# Altium schematic symbol library spacemonochrome-WR_TBL.SchLib: 1696 symbols (part 14 of 28)
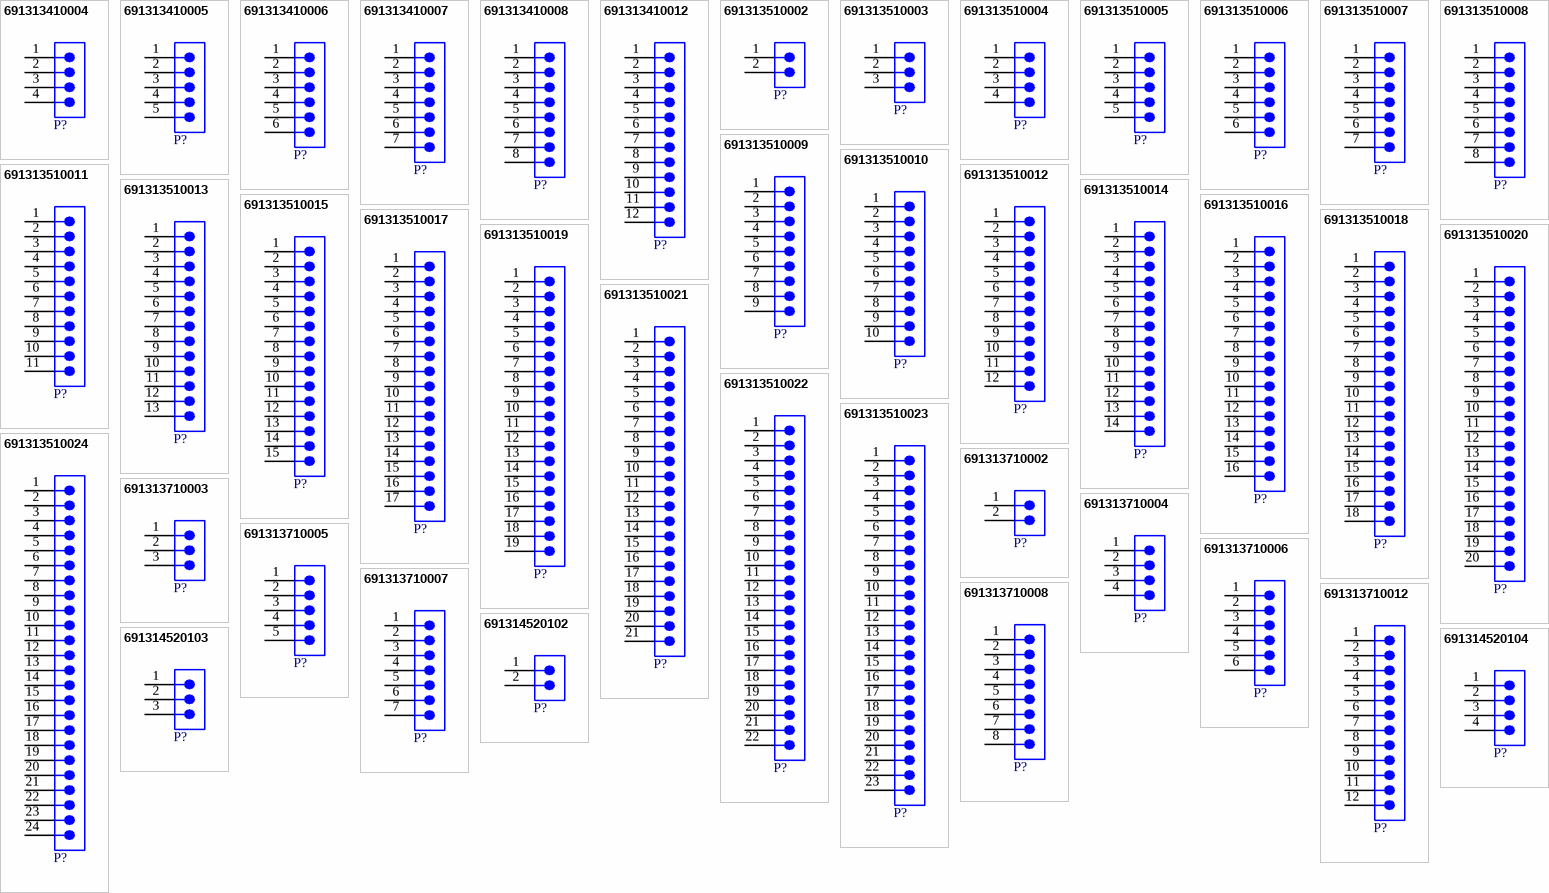
[diagram p55: symbols 691313410004 to 691314520104]

## 691313510008
designator P?  (value not drawn)
WR-TBL Series 313 Close Horizontal PCB Header, THT, pitch 5.08mm, 8p; Manufacturer: Wurth Elektronik; Modularity: No; Rated Current: 20A; Working Voltage: 300V; ComponentLink1Description: Website Link; ComponentLink1URL: https://www.we-online.com/redexpert/article/691313510008?ad; ComponentLink2Description: Datasheet Link; ComponentLink2URL: https://www.we-online.com/redexpert/spec/691313510008?ad; Manufacturer Part Number: 691313510008; Category: Terminal Blocks; Match Code: WR-TBL; Mount: Through Hole; Operating Temperature Max: 105°C; Operating Temperature Min: -40°C; Packaging: Box; Application: Pluggable; Number of Pins: 8; Number of Rows: 1; Orientation: Horizontal; Pitch: 5.08mm
footprint 691313510008
pins: 1, 2, 3, 4, 5, 6, 7, 8

## 691313510009
designator P?  (value not drawn)
WR-TBL Series 313 Close Horizontal PCB Header, THT, pitch 5.08mm, 9p; Manufacturer: Wurth Elektronik; Modularity: No; Rated Current: 20A; Working Voltage: 300V; ComponentLink1Description: Website Link; ComponentLink1URL: https://www.we-online.com/redexpert/article/691313510009?ad; ComponentLink2Description: Datasheet Link; ComponentLink2URL: https://www.we-online.com/redexpert/spec/691313510009?ad; Manufacturer Part Number: 691313510009; Category: Terminal Blocks; Match Code: WR-TBL; Mount: Through Hole; Operating Temperature Max: 105°C; Operating Temperature Min: -40°C; Packaging: Box; Application: Pluggable; Number of Pins: 9; Number of Rows: 1; Orientation: Horizontal; Pitch: 5.08mm
footprint 691313510009
pins: 1, 2, 3, 4, 5, 6, 7, 8, 9

## 691313510010
designator P?  (value not drawn)
WR-TBL Series 313 Close Horizontal PCB Header, THT, pitch 5.08mm, 10p; Manufacturer: Wurth Elektronik; Modularity: No; Rated Current: 20A; Working Voltage: 300V; ComponentLink1Description: Website Link; ComponentLink1URL: https://www.we-online.com/redexpert/article/691313510010?ad; ComponentLink2Description: Datasheet Link; ComponentLink2URL: https://www.we-online.com/redexpert/spec/691313510010?ad; Manufacturer Part Number: 691313510010; Category: Terminal Blocks; Match Code: WR-TBL; Mount: Through Hole; Operating Temperature Max: 105°C; Operating Temperature Min: -40°C; Packaging: Box; Application: Pluggable; Number of Pins: 10; Number of Rows: 1; Orientation: Horizontal; Pitch: 5.08mm
footprint 691313510010
pins: 1, 2, 3, 4, 5, 6, 7, 8, 9, 10

## 691313510011
designator P?  (value not drawn)
WR-TBL Series 313 Close Horizontal PCB Header, THT, pitch 5.08mm, 11p; Manufacturer: Wurth Elektronik; Modularity: No; Rated Current: 20A; Working Voltage: 300V; ComponentLink1Description: Website Link; ComponentLink1URL: https://www.we-online.com/redexpert/article/691313510011?ad; ComponentLink2Description: Datasheet Link; ComponentLink2URL: https://www.we-online.com/redexpert/spec/691313510011?ad; Manufacturer Part Number: 691313510011; Category: Terminal Blocks; Match Code: WR-TBL; Mount: Through Hole; Operating Temperature Max: 105°C; Operating Temperature Min: -40°C; Packaging: Box; Application: Pluggable; Number of Pins: 11; Number of Rows: 1; Orientation: Horizontal; Pitch: 5.08mm
footprint 691313510011
pins: 1, 2, 3, 4, 5, 6, 7, 8, 9, 10, 11

## 691313510012
designator P?  (value not drawn)
WR-TBL Series 313 Close Horizontal PCB Header, THT, pitch 5.08mm, 12p; Manufacturer: Wurth Elektronik; Modularity: No; Rated Current: 20A; Working Voltage: 300V; ComponentLink1Description: Website Link; ComponentLink1URL: https://www.we-online.com/redexpert/article/691313510012?ad; ComponentLink2Description: Datasheet Link; ComponentLink2URL: https://www.we-online.com/redexpert/spec/691313510012?ad; Manufacturer Part Number: 691313510012; Category: Terminal Blocks; Match Code: WR-TBL; Mount: Through Hole; Operating Temperature Max: 105°C; Operating Temperature Min: -40°C; Packaging: Box; Application: Pluggable; Number of Pins: 12; Number of Rows: 1; Orientation: Horizontal; Pitch: 5.08mm
footprint 691313510012
pins: 1, 2, 3, 4, 5, 6, 7, 8, 9, 10, 11, 12

## 691313510013
designator P?  (value not drawn)
WR-TBL Series 313 Close Horizontal PCB Header, THT, pitch 5.08mm, 13p; Manufacturer: Wurth Elektronik; Modularity: No; Rated Current: 20A; Working Voltage: 300V; ComponentLink1Description: Website Link; ComponentLink1URL: https://www.we-online.com/redexpert/article/691313510013?ad; ComponentLink2Description: Datasheet Link; ComponentLink2URL: https://www.we-online.com/redexpert/spec/691313510013?ad; Manufacturer Part Number: 691313510013; Category: Terminal Blocks; Match Code: WR-TBL; Mount: Through Hole; Operating Temperature Max: 105°C; Operating Temperature Min: -40°C; Packaging: Box; Application: Pluggable; Number of Pins: 13; Number of Rows: 1; Orientation: Horizontal; Pitch: 5.08mm
footprint 691313510013
pins: 1, 2, 3, 4, 5, 6, 7, 8, 9, 10, 11, 12, 13

## 691313510014
designator P?  (value not drawn)
WR-TBL Series 313 Close Horizontal PCB Header, THT, pitch 5.08mm, 14p; Manufacturer: Wurth Elektronik; Modularity: No; Rated Current: 20A; Working Voltage: 300V; ComponentLink1Description: Website Link; ComponentLink1URL: https://www.we-online.com/redexpert/article/691313510014?ad; ComponentLink2Description: Datasheet Link; ComponentLink2URL: https://www.we-online.com/redexpert/spec/691313510014?ad; Manufacturer Part Number: 691313510014; Category: Terminal Blocks; Match Code: WR-TBL; Mount: Through Hole; Operating Temperature Max: 105°C; Operating Temperature Min: -40°C; Packaging: Box; Application: Pluggable; Number of Pins: 14; Number of Rows: 1; Orientation: Horizontal; Pitch: 5.08mm
footprint 691313510014
pins: 1, 2, 3, 4, 5, 6, 7, 8, 9, 10, 11, 12, 13, 14

## 691313510015
designator P?  (value not drawn)
WR-TBL Series 313 Close Horizontal PCB Header, THT, pitch 5.08mm, 15p; Manufacturer: Wurth Elektronik; Modularity: No; Rated Current: 20A; Working Voltage: 300V; ComponentLink1Description: Website Link; ComponentLink1URL: https://www.we-online.com/redexpert/article/691313510015?ad; ComponentLink2Description: Datasheet Link; ComponentLink2URL: https://www.we-online.com/redexpert/spec/691313510015?ad; Manufacturer Part Number: 691313510015; Category: Terminal Blocks; Match Code: WR-TBL; Mount: Through Hole; Operating Temperature Max: 105°C; Operating Temperature Min: -40°C; Packaging: Box; Application: Pluggable; Number of Pins: 15; Number of Rows: 1; Orientation: Horizontal; Pitch: 5.08mm
footprint 691313510015
pins: 1, 2, 3, 4, 5, 6, 7, 8, 9, 10, 11, 12, 13, 14, 15

## 691313510016
designator P?  (value not drawn)
WR-TBL Series 313 Close Horizontal PCB Header, THT, pitch 5.08mm, 16p; Manufacturer: Wurth Elektronik; Modularity: No; Rated Current: 20A; Working Voltage: 300V; ComponentLink1Description: Website Link; ComponentLink1URL: https://www.we-online.com/redexpert/article/691313510016?ad; ComponentLink2Description: Datasheet Link; ComponentLink2URL: https://www.we-online.com/redexpert/spec/691313510016?ad; Manufacturer Part Number: 691313510016; Category: Terminal Blocks; Match Code: WR-TBL; Mount: Through Hole; Operating Temperature Max: 105°C; Operating Temperature Min: -40°C; Packaging: Box; Application: Pluggable; Number of Pins: 16; Number of Rows: 1; Orientation: Horizontal; Pitch: 5.08mm
footprint 691313510016
pins: 1, 2, 3, 4, 5, 6, 7, 8, 9, 10, 11, 12, 13, 14, 15, 16

## 691313510017
designator P?  (value not drawn)
WR-TBL Series 313 Close Horizontal PCB Header, THT, pitch 5.08mm, 17p; Manufacturer: Wurth Elektronik; Modularity: No; Rated Current: 20A; Working Voltage: 300V; ComponentLink1Description: Website Link; ComponentLink1URL: https://www.we-online.com/redexpert/article/691313510017?ad; ComponentLink2Description: Datasheet Link; ComponentLink2URL: https://www.we-online.com/redexpert/spec/691313510017?ad; Manufacturer Part Number: 691313510017; Category: Terminal Blocks; Match Code: WR-TBL; Mount: Through Hole; Operating Temperature Max: 105°C; Operating Temperature Min: -40°C; Packaging: Box; Application: Pluggable; Number of Pins: 17; Number of Rows: 1; Orientation: Horizontal; Pitch: 5.08mm
footprint 691313510017
pins: 1, 2, 3, 4, 5, 6, 7, 8, 9, 10, 11, 12, 13, 14, 15, 16, 17

## 691313510018
designator P?  (value not drawn)
WR-TBL Series 313 Close Horizontal PCB Header, THT, pitch 5.08mm, 18p; Manufacturer: Wurth Elektronik; Modularity: No; Rated Current: 20A; Working Voltage: 300V; ComponentLink1Description: Website Link; ComponentLink1URL: https://www.we-online.com/redexpert/article/691313510018?ad; ComponentLink2Description: Datasheet Link; ComponentLink2URL: https://www.we-online.com/redexpert/spec/691313510018?ad; Manufacturer Part Number: 691313510018; Category: Terminal Blocks; Match Code: WR-TBL; Mount: Through Hole; Operating Temperature Max: 105°C; Operating Temperature Min: -40°C; Packaging: Box; Application: Pluggable; Number of Pins: 18; Number of Rows: 1; Orientation: Horizontal; Pitch: 5.08mm
footprint 691313510018
pins: 1, 2, 3, 4, 5, 6, 7, 8, 9, 10, 11, 12, 13, 14, 15, 16, 17, 18

## 691313510019
designator P?  (value not drawn)
WR-TBL Series 313 Close Horizontal PCB Header, THT, pitch 5.08mm, 19p; Manufacturer: Wurth Elektronik; Modularity: No; Rated Current: 20A; Working Voltage: 300V; ComponentLink1Description: Website Link; ComponentLink1URL: https://www.we-online.com/redexpert/article/691313510019?ad; ComponentLink2Description: Datasheet Link; ComponentLink2URL: https://www.we-online.com/redexpert/spec/691313510019?ad; Manufacturer Part Number: 691313510019; Category: Terminal Blocks; Match Code: WR-TBL; Mount: Through Hole; Operating Temperature Max: 105°C; Operating Temperature Min: -40°C; Packaging: Box; Application: Pluggable; Number of Pins: 19; Number of Rows: 1; Orientation: Horizontal; Pitch: 5.08mm
footprint 691313510019
pins: 1, 2, 3, 4, 5, 6, 7, 8, 9, 10, 11, 12, 13, 14, 15, 16, 17, 18, 19

## 691313510020
designator P?  (value not drawn)
WR-TBL Series 313 Close Horizontal PCB Header, THT, pitch 5.08mm, 20p; Manufacturer: Wurth Elektronik; Modularity: No; Rated Current: 20A; Working Voltage: 300V; ComponentLink1Description: Website Link; ComponentLink1URL: https://www.we-online.com/redexpert/article/691313510020?ad; ComponentLink2Description: Datasheet Link; ComponentLink2URL: https://www.we-online.com/redexpert/spec/691313510020?ad; Manufacturer Part Number: 691313510020; Category: Terminal Blocks; Match Code: WR-TBL; Mount: Through Hole; Operating Temperature Max: 105°C; Operating Temperature Min: -40°C; Packaging: Box; Application: Pluggable; Number of Pins: 20; Number of Rows: 1; Orientation: Horizontal; Pitch: 5.08mm
footprint 691313510020
pins: 1, 2, 3, 4, 5, 6, 7, 8, 9, 10, 11, 12, 13, 14, 15, 16, 17, 18, 19, 20

## 691313510021
designator P?  (value not drawn)
WR-TBL Series 313 Close Horizontal PCB Header, THT, pitch 5.08mm, 21p; Manufacturer: Wurth Elektronik; Modularity: No; Rated Current: 20A; Working Voltage: 300V; ComponentLink1Description: Website Link; ComponentLink1URL: https://www.we-online.com/redexpert/article/691313510021?ad; ComponentLink2Description: Datasheet Link; ComponentLink2URL: https://www.we-online.com/redexpert/spec/691313510021?ad; Manufacturer Part Number: 691313510021; Category: Terminal Blocks; Match Code: WR-TBL; Mount: Through Hole; Operating Temperature Max: 105°C; Operating Temperature Min: -40°C; Packaging: Box; Application: Pluggable; Number of Pins: 21; Number of Rows: 1; Orientation: Horizontal; Pitch: 5.08mm
footprint 691313510021
pins: 1, 2, 3, 4, 5, 6, 7, 8, 9, 10, 11, 12, 13, 14, 15, 16, 17, 18, 19, 20, 21

## 691313510022
designator P?  (value not drawn)
WR-TBL Series 313 Close Horizontal PCB Header, THT, pitch 5.08mm, 22p; Manufacturer: Wurth Elektronik; Modularity: No; Rated Current: 20A; Working Voltage: 300V; ComponentLink1Description: Website Link; ComponentLink1URL: https://www.we-online.com/redexpert/article/691313510022?ad; ComponentLink2Description: Datasheet Link; ComponentLink2URL: https://www.we-online.com/redexpert/spec/691313510022?ad; Manufacturer Part Number: 691313510022; Category: Terminal Blocks; Match Code: WR-TBL; Mount: Through Hole; Operating Temperature Max: 105°C; Operating Temperature Min: -40°C; Packaging: Box; Application: Pluggable; Number of Pins: 22; Number of Rows: 1; Orientation: Horizontal; Pitch: 5.08mm
footprint 691313510022
pins: 1, 2, 3, 4, 5, 6, 7, 8, 9, 10, 11, 12, 13, 14, 15, 16, 17, 18, 19, 20, 21, 22

## 691313510023
designator P?  (value not drawn)
WR-TBL Series 313 Close Horizontal PCB Header, THT, pitch 5.08mm, 23p; Manufacturer: Wurth Elektronik; Modularity: No; Rated Current: 20A; Working Voltage: 300V; ComponentLink1Description: Website Link; ComponentLink1URL: https://www.we-online.com/redexpert/article/691313510023?ad; ComponentLink2Description: Datasheet Link; ComponentLink2URL: https://www.we-online.com/redexpert/spec/691313510023?ad; Manufacturer Part Number: 691313510023; Category: Terminal Blocks; Match Code: WR-TBL; Mount: Through Hole; Operating Temperature Max: 105°C; Operating Temperature Min: -40°C; Packaging: Box; Application: Pluggable; Number of Pins: 23; Number of Rows: 1; Orientation: Horizontal; Pitch: 5.08mm
footprint 691313510023
pins: 1, 2, 3, 4, 5, 6, 7, 8, 9, 10, 11, 12, 13, 14, 15, 16, 17, 18, 19, 20, 21, 22, 23

## 691313510024
designator P?  (value not drawn)
WR-TBL Series 313 Close Horizontal PCB Header, THT, pitch 5.08mm, 24p; Manufacturer: Wurth Elektronik; Modularity: No; Rated Current: 20A; Working Voltage: 300V; ComponentLink1Description: Website Link; ComponentLink1URL: https://www.we-online.com/redexpert/article/691313510024?ad; ComponentLink2Description: Datasheet Link; ComponentLink2URL: https://www.we-online.com/redexpert/spec/691313510024?ad; Manufacturer Part Number: 691313510024; Category: Terminal Blocks; Match Code: WR-TBL; Mount: Through Hole; Operating Temperature Max: 105°C; Operating Temperature Min: -40°C; Packaging: Box; Application: Pluggable; Number of Pins: 24; Number of Rows: 1; Orientation: Horizontal; Pitch: 5.08mm
footprint 691313510024
pins: 1, 2, 3, 4, 5, 6, 7, 8, 9, 10, 11, 12, 13, 14, 15, 16, 17, 18, 19, 20, 21, 22, 23, 24

## 691313710002
designator P?  (value not drawn)
WR-TBL Series 3137 Close Horizontal PCB Header, THT, pitch 5mm, 2p; Manufacturer: Wurth Elektronik; Modularity: No; Rated Current: 20A; Working Voltage: 300V; ComponentLink1Description: Website Link; ComponentLink1URL: https://www.we-online.com/redexpert/article/691313710002?ad; ComponentLink2Description: Datasheet Link; ComponentLink2URL: https://www.we-online.com/redexpert/spec/691313710002?ad; Manufacturer Part Number: 691313710002; Category: Terminal Blocks; Match Code: WR-TBL; Mount: Through Hole; Operating Temperature Max: 105°C; Operating Temperature Min: -40°C; Packaging: Box; Application: Pluggable; Number of Pins: 2; Number of Rows: 1; Orientation: Horizontal; Pitch: 5mm
footprint 691313710002
pins: 1, 2

## 691313710003
designator P?  (value not drawn)
WR-TBL Series 3137 Close Horizontal PCB Header, THT, pitch 5mm, 3p; Manufacturer: Wurth Elektronik; Modularity: No; Rated Current: 20A; Working Voltage: 300V; ComponentLink1Description: Website Link; ComponentLink1URL: https://www.we-online.com/redexpert/article/691313710003?ad; ComponentLink2Description: Datasheet Link; ComponentLink2URL: https://www.we-online.com/redexpert/spec/691313710003?ad; Manufacturer Part Number: 691313710003; Category: Terminal Blocks; Match Code: WR-TBL; Mount: Through Hole; Operating Temperature Max: 105°C; Operating Temperature Min: -40°C; Packaging: Box; Application: Pluggable; Number of Pins: 3; Number of Rows: 1; Orientation: Horizontal; Pitch: 5mm
footprint 691313710003
pins: 1, 2, 3

## 691313710004
designator P?  (value not drawn)
WR-TBL Series 3137 Close Horizontal PCB Header, THT, pitch 5mm, 4p; Manufacturer: Wurth Elektronik; Modularity: No; Rated Current: 20A; Working Voltage: 300V; ComponentLink1Description: Website Link; ComponentLink1URL: https://www.we-online.com/redexpert/article/691313710004?ad; ComponentLink2Description: Datasheet Link; ComponentLink2URL: https://www.we-online.com/redexpert/spec/691313710004?ad; Manufacturer Part Number: 691313710004; Category: Terminal Blocks; Match Code: WR-TBL; Mount: Through Hole; Operating Temperature Max: 105°C; Operating Temperature Min: -40°C; Packaging: Box; Application: Pluggable; Number of Pins: 4; Number of Rows: 1; Orientation: Horizontal; Pitch: 5mm
footprint 691313710004
pins: 1, 2, 3, 4

## 691313710005
designator P?  (value not drawn)
WR-TBL Series 3137 Close Horizontal PCB Header, THT, pitch 5mm, 5p; Manufacturer: Wurth Elektronik; Modularity: No; Rated Current: 20A; Working Voltage: 300V; ComponentLink1Description: Website Link; ComponentLink1URL: https://www.we-online.com/redexpert/article/691313710005?ad; ComponentLink2Description: Datasheet Link; ComponentLink2URL: https://www.we-online.com/redexpert/spec/691313710005?ad; Manufacturer Part Number: 691313710005; Category: Terminal Blocks; Match Code: WR-TBL; Mount: Through Hole; Operating Temperature Max: 105°C; Operating Temperature Min: -40°C; Packaging: Box; Application: Pluggable; Number of Pins: 5; Number of Rows: 1; Orientation: Horizontal; Pitch: 5mm
footprint 691313710005
pins: 1, 2, 3, 4, 5

## 691313710006
designator P?  (value not drawn)
WR-TBL Series 3137 Close Horizontal PCB Header, THT, pitch 5mm, 6p; Manufacturer: Wurth Elektronik; Modularity: No; Rated Current: 20A; Working Voltage: 300V; ComponentLink1Description: Website Link; ComponentLink1URL: https://www.we-online.com/redexpert/article/691313710006?ad; ComponentLink2Description: Datasheet Link; ComponentLink2URL: https://www.we-online.com/redexpert/spec/691313710006?ad; Manufacturer Part Number: 691313710006; Category: Terminal Blocks; Match Code: WR-TBL; Mount: Through Hole; Operating Temperature Max: 105°C; Operating Temperature Min: -40°C; Packaging: Box; Application: Pluggable; Number of Pins: 6; Number of Rows: 1; Orientation: Horizontal; Pitch: 5mm
footprint 691313710006
pins: 1, 2, 3, 4, 5, 6

## 691313710007
designator P?  (value not drawn)
WR-TBL Series 3137 Close Horizontal PCB Header, THT, pitch 5mm, 7p; Manufacturer: Wurth Elektronik; Modularity: No; Rated Current: 20A; Working Voltage: 300V; ComponentLink1Description: Website Link; ComponentLink1URL: https://www.we-online.com/redexpert/article/691313710007?ad; ComponentLink2Description: Datasheet Link; ComponentLink2URL: https://www.we-online.com/redexpert/spec/691313710007?ad; Manufacturer Part Number: 691313710007; Category: Terminal Blocks; Match Code: WR-TBL; Mount: Through Hole; Operating Temperature Max: 105°C; Operating Temperature Min: -40°C; Packaging: Box; Application: Pluggable; Number of Pins: 7; Number of Rows: 1; Orientation: Horizontal; Pitch: 5mm
footprint 691313710007
pins: 1, 2, 3, 4, 5, 6, 7

## 691313710008
designator P?  (value not drawn)
WR-TBL Series 3137 Close Horizontal PCB Header, THT, pitch 5mm, 8p; Manufacturer: Wurth Elektronik; Modularity: No; Rated Current: 20A; Working Voltage: 300V; ComponentLink1Description: Website Link; ComponentLink1URL: https://www.we-online.com/redexpert/article/691313710008?ad; ComponentLink2Description: Datasheet Link; ComponentLink2URL: https://www.we-online.com/redexpert/spec/691313710008?ad; Manufacturer Part Number: 691313710008; Category: Terminal Blocks; Match Code: WR-TBL; Mount: Through Hole; Operating Temperature Max: 105°C; Operating Temperature Min: -40°C; Packaging: Box; Application: Pluggable; Number of Pins: 8; Number of Rows: 1; Orientation: Horizontal; Pitch: 5mm
footprint 691313710008
pins: 1, 2, 3, 4, 5, 6, 7, 8

## 691313710012
designator P?  (value not drawn)
WR-TBL Series 3137 Close Horizontal PCB Header, THT, pitch 5mm, 12p; Manufacturer: Wurth Elektronik; Modularity: No; Rated Current: 20A; Working Voltage: 300V; ComponentLink1Description: Website Link; ComponentLink1URL: https://www.we-online.com/redexpert/article/691313710012?ad; ComponentLink2Description: Datasheet Link; ComponentLink2URL: https://www.we-online.com/redexpert/spec/691313710012?ad; Manufacturer Part Number: 691313710012; Category: Terminal Blocks; Match Code: WR-TBL; Mount: Through Hole; Operating Temperature Max: 105°C; Operating Temperature Min: -40°C; Packaging: Box; Application: Pluggable; Number of Pins: 12; Number of Rows: 1; Orientation: Horizontal; Pitch: 5mm
footprint 691313710012
pins: 1, 2, 3, 4, 5, 6, 7, 8, 9, 10, 11, 12

## 691314520102
designator P?  (value not drawn)
WR-TBL Series 314 Close 45° PCB Header, THT, pitch 5.08mm, 2p; Manufacturer: Wurth Elektronik; Modularity: No; Rated Current: 20A; Working Voltage: 300V; ComponentLink1Description: Website Link; ComponentLink1URL: https://www.we-online.com/redexpert/article/691314520102?ad; ComponentLink2Description: Datasheet Link; ComponentLink2URL: https://www.we-online.com/redexpert/spec/691314520102?ad; Manufacturer Part Number: 691314520102; Category: Terminal Blocks; Match Code: WR-TBL; Mount: Through Hole; Operating Temperature Max: 105°C; Operating Temperature Min: -40°C; Packaging: Box; Application: Pluggable; Number of Pins: 2; Number of Rows: 1; Orientation: 45°; Pitch: 5.08mm
footprint 691314520102
pins: 1, 2

## 691314520103
designator P?  (value not drawn)
WR-TBL Series 314 Close 45° PCB Header, THT, pitch 5.08mm, 3p; Manufacturer: Wurth Elektronik; Modularity: No; Rated Current: 20A; Working Voltage: 300V; ComponentLink1Description: Website Link; ComponentLink1URL: https://www.we-online.com/redexpert/article/691314520103?ad; ComponentLink2Description: Datasheet Link; ComponentLink2URL: https://www.we-online.com/redexpert/spec/691314520103?ad; Manufacturer Part Number: 691314520103; Category: Terminal Blocks; Match Code: WR-TBL; Mount: Through Hole; Operating Temperature Max: 105°C; Operating Temperature Min: -40°C; Packaging: Box; Application: Pluggable; Number of Pins: 3; Number of Rows: 1; Orientation: 45°; Pitch: 5.08mm
footprint 691314520103
pins: 1, 2, 3

## 691314520104
designator P?  (value not drawn)
WR-TBL Series 314 Close 45° PCB Header, THT, pitch 5.08mm, 4p; Manufacturer: Wurth Elektronik; Modularity: No; Rated Current: 20A; Working Voltage: 300V; ComponentLink1Description: Website Link; ComponentLink1URL: https://www.we-online.com/redexpert/article/691314520104?ad; ComponentLink2Description: Datasheet Link; ComponentLink2URL: https://www.we-online.com/redexpert/spec/691314520104?ad; Manufacturer Part Number: 691314520104; Category: Terminal Blocks; Match Code: WR-TBL; Mount: Through Hole; Operating Temperature Max: 105°C; Operating Temperature Min: -40°C; Packaging: Box; Application: Pluggable; Number of Pins: 4; Number of Rows: 1; Orientation: 45°; Pitch: 5.08mm
footprint 691314520104
pins: 1, 2, 3, 4

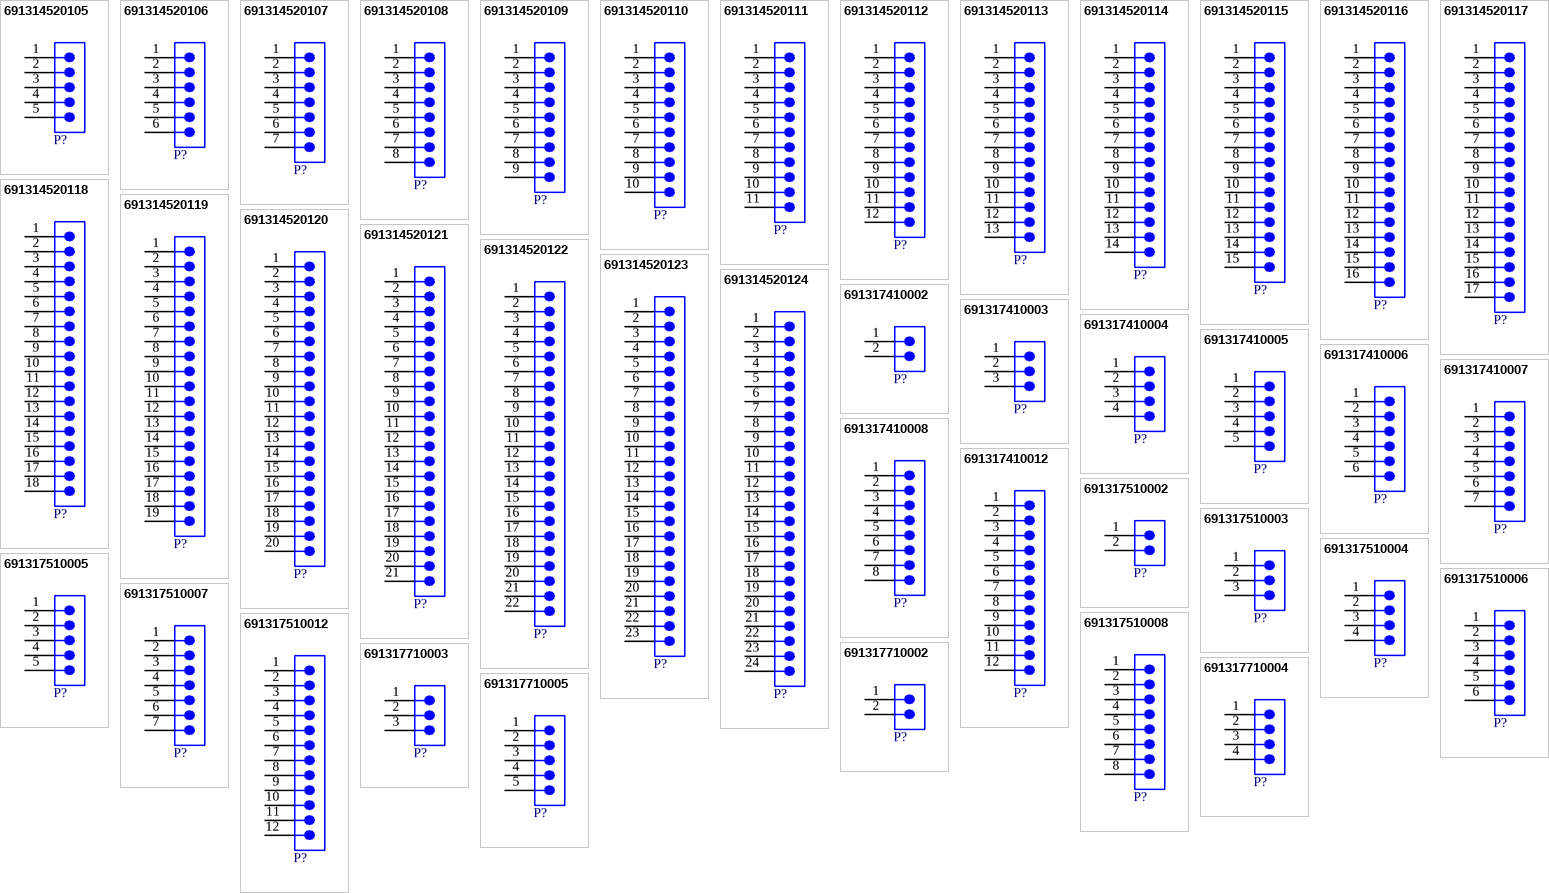
[diagram p21: symbols 691314520105 to 691317710005]

## 691314520105
designator P?  (value not drawn)
WR-TBL Series 314 Close 45° PCB Header, THT, pitch 5.08mm, 5p; Manufacturer: Wurth Elektronik; Modularity: No; Rated Current: 20A; Working Voltage: 300V; ComponentLink1Description: Website Link; ComponentLink1URL: https://www.we-online.com/redexpert/article/691314520105?ad; ComponentLink2Description: Datasheet Link; ComponentLink2URL: https://www.we-online.com/redexpert/spec/691314520105?ad; Manufacturer Part Number: 691314520105; Category: Terminal Blocks; Match Code: WR-TBL; Mount: Through Hole; Operating Temperature Max: 105°C; Operating Temperature Min: -40°C; Packaging: Box; Application: Pluggable; Number of Pins: 5; Number of Rows: 1; Orientation: 45°; Pitch: 5.08mm
footprint 691314520105
pins: 1, 2, 3, 4, 5

## 691314520106
designator P?  (value not drawn)
WR-TBL Series 314 Close 45° PCB Header, THT, pitch 5.08mm, 6p; Manufacturer: Wurth Elektronik; Modularity: No; Rated Current: 20A; Working Voltage: 300V; ComponentLink1Description: Website Link; ComponentLink1URL: https://www.we-online.com/redexpert/article/691314520106?ad; ComponentLink2Description: Datasheet Link; ComponentLink2URL: https://www.we-online.com/redexpert/spec/691314520106?ad; Manufacturer Part Number: 691314520106; Category: Terminal Blocks; Match Code: WR-TBL; Mount: Through Hole; Operating Temperature Max: 105°C; Operating Temperature Min: -40°C; Packaging: Box; Application: Pluggable; Number of Pins: 6; Number of Rows: 1; Orientation: 45°; Pitch: 5.08mm
footprint 691314520106
pins: 1, 2, 3, 4, 5, 6

## 691314520107
designator P?  (value not drawn)
WR-TBL Series 314 Close 45° PCB Header, THT, pitch 5.08mm, 7p; Manufacturer: Wurth Elektronik; Modularity: No; Rated Current: 20A; Working Voltage: 300V; ComponentLink1Description: Website Link; ComponentLink1URL: https://www.we-online.com/redexpert/article/691314520107?ad; ComponentLink2Description: Datasheet Link; ComponentLink2URL: https://www.we-online.com/redexpert/spec/691314520107?ad; Manufacturer Part Number: 691314520107; Category: Terminal Blocks; Match Code: WR-TBL; Mount: Through Hole; Operating Temperature Max: 105°C; Operating Temperature Min: -40°C; Packaging: Box; Application: Pluggable; Number of Pins: 7; Number of Rows: 1; Orientation: 45°; Pitch: 5.08mm
footprint 691314520107
pins: 1, 2, 3, 4, 5, 6, 7

## 691314520108
designator P?  (value not drawn)
WR-TBL Series 314 Close 45° PCB Header, THT, pitch 5.08mm, 8p; Manufacturer: Wurth Elektronik; Modularity: No; Rated Current: 20A; Working Voltage: 300V; ComponentLink1Description: Website Link; ComponentLink1URL: https://www.we-online.com/redexpert/article/691314520108?ad; ComponentLink2Description: Datasheet Link; ComponentLink2URL: https://www.we-online.com/redexpert/spec/691314520108?ad; Manufacturer Part Number: 691314520108; Category: Terminal Blocks; Match Code: WR-TBL; Mount: Through Hole; Operating Temperature Max: 105°C; Operating Temperature Min: -40°C; Packaging: Box; Application: Pluggable; Number of Pins: 8; Number of Rows: 1; Orientation: 45°; Pitch: 5.08mm
footprint 691314520108
pins: 1, 2, 3, 4, 5, 6, 7, 8

## 691314520109
designator P?  (value not drawn)
WR-TBL Series 314 Close 45° PCB Header, THT, pitch 5.08mm, 9p; Manufacturer: Wurth Elektronik; Modularity: No; Rated Current: 20A; Working Voltage: 300V; ComponentLink1Description: Website Link; ComponentLink1URL: https://www.we-online.com/redexpert/article/691314520109?ad; ComponentLink2Description: Datasheet Link; ComponentLink2URL: https://www.we-online.com/redexpert/spec/691314520109?ad; Manufacturer Part Number: 691314520109; Category: Terminal Blocks; Match Code: WR-TBL; Mount: Through Hole; Operating Temperature Max: 105°C; Operating Temperature Min: -40°C; Packaging: Box; Application: Pluggable; Number of Pins: 9; Number of Rows: 1; Orientation: 45°; Pitch: 5.08mm
footprint 691314520109
pins: 1, 2, 3, 4, 5, 6, 7, 8, 9

## 691314520110
designator P?  (value not drawn)
WR-TBL Series 314 Close 45° PCB Header, THT, pitch 5.08mm, 10p; Manufacturer: Wurth Elektronik; Modularity: No; Rated Current: 20A; Working Voltage: 300V; ComponentLink1Description: Website Link; ComponentLink1URL: https://www.we-online.com/redexpert/article/691314520110?ad; ComponentLink2Description: Datasheet Link; ComponentLink2URL: https://www.we-online.com/redexpert/spec/691314520110?ad; Manufacturer Part Number: 691314520110; Category: Terminal Blocks; Match Code: WR-TBL; Mount: Through Hole; Operating Temperature Max: 105°C; Operating Temperature Min: -40°C; Packaging: Box; Application: Pluggable; Number of Pins: 10; Number of Rows: 1; Orientation: 45°; Pitch: 5.08mm
footprint 691314520110
pins: 1, 2, 3, 4, 5, 6, 7, 8, 9, 10

## 691314520111
designator P?  (value not drawn)
WR-TBL Series 314 Close 45° PCB Header, THT, pitch 5.08mm, 11p; Manufacturer: Wurth Elektronik; Modularity: No; Rated Current: 20A; Working Voltage: 300V; ComponentLink1Description: Website Link; ComponentLink1URL: https://www.we-online.com/redexpert/article/691314520111?ad; ComponentLink2Description: Datasheet Link; ComponentLink2URL: https://www.we-online.com/redexpert/spec/691314520111?ad; Manufacturer Part Number: 691314520111; Category: Terminal Blocks; Match Code: WR-TBL; Mount: Through Hole; Operating Temperature Max: 105°C; Operating Temperature Min: -40°C; Packaging: Box; Application: Pluggable; Number of Pins: 11; Number of Rows: 1; Orientation: 45°; Pitch: 5.08mm
footprint 691314520111
pins: 1, 2, 3, 4, 5, 6, 7, 8, 9, 10, 11

## 691314520112
designator P?  (value not drawn)
WR-TBL Series 314 Close 45° PCB Header, THT, pitch 5.08mm, 12p; Manufacturer: Wurth Elektronik; Modularity: No; Rated Current: 20A; Working Voltage: 300V; ComponentLink1Description: Website Link; ComponentLink1URL: https://www.we-online.com/redexpert/article/691314520112?ad; ComponentLink2Description: Datasheet Link; ComponentLink2URL: https://www.we-online.com/redexpert/spec/691314520112?ad; Manufacturer Part Number: 691314520112; Category: Terminal Blocks; Match Code: WR-TBL; Mount: Through Hole; Operating Temperature Max: 105°C; Operating Temperature Min: -40°C; Packaging: Box; Application: Pluggable; Number of Pins: 12; Number of Rows: 1; Orientation: 45°; Pitch: 5.08mm
footprint 691314520112
pins: 1, 2, 3, 4, 5, 6, 7, 8, 9, 10, 11, 12

## 691314520113
designator P?  (value not drawn)
WR-TBL Series 314 Close 45° PCB Header, THT, pitch 5.08mm, 13p; Manufacturer: Wurth Elektronik; Modularity: No; Rated Current: 20A; Working Voltage: 300V; ComponentLink1Description: Website Link; ComponentLink1URL: https://www.we-online.com/redexpert/article/691314520113?ad; ComponentLink2Description: Datasheet Link; ComponentLink2URL: https://www.we-online.com/redexpert/spec/691314520113?ad; Manufacturer Part Number: 691314520113; Category: Terminal Blocks; Match Code: WR-TBL; Mount: Through Hole; Operating Temperature Max: 105°C; Operating Temperature Min: -40°C; Packaging: Box; Application: Pluggable; Number of Pins: 13; Number of Rows: 1; Orientation: 45°; Pitch: 5.08mm
footprint 691314520113
pins: 1, 2, 3, 4, 5, 6, 7, 8, 9, 10, 11, 12, 13

## 691314520114
designator P?  (value not drawn)
WR-TBL Series 314 Close 45° PCB Header, THT, pitch 5.08mm, 14p; Manufacturer: Wurth Elektronik; Modularity: No; Rated Current: 20A; Working Voltage: 300V; ComponentLink1Description: Website Link; ComponentLink1URL: https://www.we-online.com/redexpert/article/691314520114?ad; ComponentLink2Description: Datasheet Link; ComponentLink2URL: https://www.we-online.com/redexpert/spec/691314520114?ad; Manufacturer Part Number: 691314520114; Category: Terminal Blocks; Match Code: WR-TBL; Mount: Through Hole; Operating Temperature Max: 105°C; Operating Temperature Min: -40°C; Packaging: Box; Application: Pluggable; Number of Pins: 14; Number of Rows: 1; Orientation: 45°; Pitch: 5.08mm
footprint 691314520114
pins: 1, 2, 3, 4, 5, 6, 7, 8, 9, 10, 11, 12, 13, 14

## 691314520115
designator P?  (value not drawn)
WR-TBL Series 314 Close 45° PCB Header, THT, pitch 5.08mm, 15p; Manufacturer: Wurth Elektronik; Modularity: No; Rated Current: 20A; Working Voltage: 300V; ComponentLink1Description: Website Link; ComponentLink1URL: https://www.we-online.com/redexpert/article/691314520115?ad; ComponentLink2Description: Datasheet Link; ComponentLink2URL: https://www.we-online.com/redexpert/spec/691314520115?ad; Manufacturer Part Number: 691314520115; Category: Terminal Blocks; Match Code: WR-TBL; Mount: Through Hole; Operating Temperature Max: 105°C; Operating Temperature Min: -40°C; Packaging: Box; Application: Pluggable; Number of Pins: 15; Number of Rows: 1; Orientation: 45°; Pitch: 5.08mm
footprint 691314520115
pins: 1, 2, 3, 4, 5, 6, 7, 8, 9, 10, 11, 12, 13, 14, 15

## 691314520116
designator P?  (value not drawn)
WR-TBL Series 314 Close 45° PCB Header, THT, pitch 5.08mm, 16p; Manufacturer: Wurth Elektronik; Modularity: No; Rated Current: 20A; Working Voltage: 300V; ComponentLink1Description: Website Link; ComponentLink1URL: https://www.we-online.com/redexpert/article/691314520116?ad; ComponentLink2Description: Datasheet Link; ComponentLink2URL: https://www.we-online.com/redexpert/spec/691314520116?ad; Manufacturer Part Number: 691314520116; Category: Terminal Blocks; Match Code: WR-TBL; Mount: Through Hole; Operating Temperature Max: 105°C; Operating Temperature Min: -40°C; Packaging: Box; Application: Pluggable; Number of Pins: 16; Number of Rows: 1; Orientation: 45°; Pitch: 5.08mm
footprint 691314520116
pins: 1, 2, 3, 4, 5, 6, 7, 8, 9, 10, 11, 12, 13, 14, 15, 16

## 691314520117
designator P?  (value not drawn)
WR-TBL Series 314 Close 45° PCB Header, THT, pitch 5.08mm, 17p; Manufacturer: Wurth Elektronik; Modularity: No; Rated Current: 20A; Working Voltage: 300V; ComponentLink1Description: Website Link; ComponentLink1URL: https://www.we-online.com/redexpert/article/691314520117?ad; ComponentLink2Description: Datasheet Link; ComponentLink2URL: https://www.we-online.com/redexpert/spec/691314520117?ad; Manufacturer Part Number: 691314520117; Category: Terminal Blocks; Match Code: WR-TBL; Mount: Through Hole; Operating Temperature Max: 105°C; Operating Temperature Min: -40°C; Packaging: Box; Application: Pluggable; Number of Pins: 17; Number of Rows: 1; Orientation: 45°; Pitch: 5.08mm
footprint 691314520117
pins: 1, 2, 3, 4, 5, 6, 7, 8, 9, 10, 11, 12, 13, 14, 15, 16, 17

## 691314520118
designator P?  (value not drawn)
WR-TBL Series 314 Close 45° PCB Header, THT, pitch 5.08mm, 18p; Manufacturer: Wurth Elektronik; Modularity: No; Rated Current: 20A; Working Voltage: 300V; ComponentLink1Description: Website Link; ComponentLink1URL: https://www.we-online.com/redexpert/article/691314520118?ad; ComponentLink2Description: Datasheet Link; ComponentLink2URL: https://www.we-online.com/redexpert/spec/691314520118?ad; Manufacturer Part Number: 691314520118; Category: Terminal Blocks; Match Code: WR-TBL; Mount: Through Hole; Operating Temperature Max: 105°C; Operating Temperature Min: -40°C; Packaging: Box; Application: Pluggable; Number of Pins: 18; Number of Rows: 1; Orientation: 45°; Pitch: 5.08mm
footprint 691314520118
pins: 1, 2, 3, 4, 5, 6, 7, 8, 9, 10, 11, 12, 13, 14, 15, 16, 17, 18

## 691314520119
designator P?  (value not drawn)
WR-TBL Series 314 Close 45° PCB Header, THT, pitch 5.08mm, 19p; Manufacturer: Wurth Elektronik; Modularity: No; Rated Current: 20A; Working Voltage: 300V; ComponentLink1Description: Website Link; ComponentLink1URL: https://www.we-online.com/redexpert/article/691314520119?ad; ComponentLink2Description: Datasheet Link; ComponentLink2URL: https://www.we-online.com/redexpert/spec/691314520119?ad; Manufacturer Part Number: 691314520119; Category: Terminal Blocks; Match Code: WR-TBL; Mount: Through Hole; Operating Temperature Max: 105°C; Operating Temperature Min: -40°C; Packaging: Box; Application: Pluggable; Number of Pins: 19; Number of Rows: 1; Orientation: 45°; Pitch: 5.08mm
footprint 691314520119
pins: 1, 2, 3, 4, 5, 6, 7, 8, 9, 10, 11, 12, 13, 14, 15, 16, 17, 18, 19

## 691314520120
designator P?  (value not drawn)
WR-TBL Series 314 Close 45° PCB Header, THT, pitch 5.08mm, 20p; Manufacturer: Wurth Elektronik; Modularity: No; Rated Current: 20A; Working Voltage: 300V; ComponentLink1Description: Website Link; ComponentLink1URL: https://www.we-online.com/redexpert/article/691314520120?ad; ComponentLink2Description: Datasheet Link; ComponentLink2URL: https://www.we-online.com/redexpert/spec/691314520120?ad; Manufacturer Part Number: 691314520120; Category: Terminal Blocks; Match Code: WR-TBL; Mount: Through Hole; Operating Temperature Max: 105°C; Operating Temperature Min: -40°C; Packaging: Box; Application: Pluggable; Number of Pins: 20; Number of Rows: 1; Orientation: 45°; Pitch: 5.08mm
footprint 691314520120
pins: 1, 2, 3, 4, 5, 6, 7, 8, 9, 10, 11, 12, 13, 14, 15, 16, 17, 18, 19, 20

## 691314520121
designator P?  (value not drawn)
WR-TBL Series 314 Close 45° PCB Header, THT, pitch 5.08mm, 21p; Manufacturer: Wurth Elektronik; Modularity: No; Rated Current: 20A; Working Voltage: 300V; ComponentLink1Description: Website Link; ComponentLink1URL: https://www.we-online.com/redexpert/article/691314520121?ad; ComponentLink2Description: Datasheet Link; ComponentLink2URL: https://www.we-online.com/redexpert/spec/691314520121?ad; Manufacturer Part Number: 691314520121; Category: Terminal Blocks; Match Code: WR-TBL; Mount: Through Hole; Operating Temperature Max: 105°C; Operating Temperature Min: -40°C; Packaging: Box; Application: Pluggable; Number of Pins: 21; Number of Rows: 1; Orientation: 45°; Pitch: 5.08mm
footprint 691314520121
pins: 1, 2, 3, 4, 5, 6, 7, 8, 9, 10, 11, 12, 13, 14, 15, 16, 17, 18, 19, 20, 21

## 691314520122
designator P?  (value not drawn)
WR-TBL Series 314 Close 45° PCB Header, THT, pitch 5.08mm, 22p; Manufacturer: Wurth Elektronik; Modularity: No; Rated Current: 20A; Working Voltage: 300V; ComponentLink1Description: Website Link; ComponentLink1URL: https://www.we-online.com/redexpert/article/691314520122?ad; ComponentLink2Description: Datasheet Link; ComponentLink2URL: https://www.we-online.com/redexpert/spec/691314520122?ad; Manufacturer Part Number: 691314520122; Category: Terminal Blocks; Match Code: WR-TBL; Mount: Through Hole; Operating Temperature Max: 105°C; Operating Temperature Min: -40°C; Packaging: Box; Application: Pluggable; Number of Pins: 22; Number of Rows: 1; Orientation: 45°; Pitch: 5.08mm
footprint 691314520122
pins: 1, 2, 3, 4, 5, 6, 7, 8, 9, 10, 11, 12, 13, 14, 15, 16, 17, 18, 19, 20, 21, 22

## 691314520123
designator P?  (value not drawn)
WR-TBL Series 314 Close 45° PCB Header, THT, pitch 5.08mm, 23p; Manufacturer: Wurth Elektronik; Modularity: No; Rated Current: 20A; Working Voltage: 300V; ComponentLink1Description: Website Link; ComponentLink1URL: https://www.we-online.com/redexpert/article/691314520123?ad; ComponentLink2Description: Datasheet Link; ComponentLink2URL: https://www.we-online.com/redexpert/spec/691314520123?ad; Manufacturer Part Number: 691314520123; Category: Terminal Blocks; Match Code: WR-TBL; Mount: Through Hole; Operating Temperature Max: 105°C; Operating Temperature Min: -40°C; Packaging: Box; Application: Pluggable; Number of Pins: 23; Number of Rows: 1; Orientation: 45°; Pitch: 5.08mm
footprint 691314520123
pins: 1, 2, 3, 4, 5, 6, 7, 8, 9, 10, 11, 12, 13, 14, 15, 16, 17, 18, 19, 20, 21, 22, 23

## 691314520124
designator P?  (value not drawn)
WR-TBL Series 314 Close 45° PCB Header, THT, pitch 5.08mm, 24p; Manufacturer: Wurth Elektronik; Modularity: No; Rated Current: 20A; Working Voltage: 300V; ComponentLink1Description: Website Link; ComponentLink1URL: https://www.we-online.com/redexpert/article/691314520124?ad; ComponentLink2Description: Datasheet Link; ComponentLink2URL: https://www.we-online.com/redexpert/spec/691314520124?ad; Manufacturer Part Number: 691314520124; Category: Terminal Blocks; Match Code: WR-TBL; Mount: Through Hole; Operating Temperature Max: 105°C; Operating Temperature Min: -40°C; Packaging: Box; Application: Pluggable; Number of Pins: 24; Number of Rows: 1; Orientation: 45°; Pitch: 5.08mm
footprint 691314520124
pins: 1, 2, 3, 4, 5, 6, 7, 8, 9, 10, 11, 12, 13, 14, 15, 16, 17, 18, 19, 20, 21, 22, 23, 24

## 691317410002
designator P?  (value not drawn)
WR-TBL Series 3174 Close Horizontal PCB Header, THT, pitch 7.62mm, 2p; Manufacturer: Wurth Elektronik; Modularity: No; Rated Current: 20A; Working Voltage: 300V; ComponentLink1Description: Website Link; ComponentLink1URL: https://www.we-online.com/redexpert/article/691317410002?ad; ComponentLink2Description: Datasheet Link; ComponentLink2URL: https://www.we-online.com/redexpert/spec/691317410002?ad; Manufacturer Part Number: 691317410002; Category: Terminal Blocks; Match Code: WR-TBL; Mount: Through Hole; Operating Temperature Max: 105°C; Operating Temperature Min: -40°C; Packaging: Box; Application: Pluggable; Number of Pins: 2; Number of Rows: 1; Orientation: Horizontal; Pitch: 7.62mm
footprint 691317410002
pins: 1, 2

## 691317410003
designator P?  (value not drawn)
WR-TBL Series 3174 Close Horizontal PCB Header, THT, pitch 7.62mm, 3p; Manufacturer: Wurth Elektronik; Modularity: No; Rated Current: 20A; Working Voltage: 300V; ComponentLink1Description: Website Link; ComponentLink1URL: https://www.we-online.com/redexpert/article/691317410003?ad; ComponentLink2Description: Datasheet Link; ComponentLink2URL: https://www.we-online.com/redexpert/spec/691317410003?ad; Manufacturer Part Number: 691317410003; Category: Terminal Blocks; Match Code: WR-TBL; Mount: Through Hole; Operating Temperature Max: 105°C; Operating Temperature Min: -40°C; Packaging: Box; Application: Pluggable; Number of Pins: 3; Number of Rows: 1; Orientation: Horizontal; Pitch: 7.62mm
footprint 691317410003
pins: 1, 2, 3

## 691317410004
designator P?  (value not drawn)
WR-TBL Series 3174 Close Horizontal PCB Header, THT, pitch 7.62mm, 4p; Manufacturer: Wurth Elektronik; Modularity: No; Rated Current: 20A; Working Voltage: 300V; ComponentLink1Description: Website Link; ComponentLink1URL: https://www.we-online.com/redexpert/article/691317410004?ad; ComponentLink2Description: Datasheet Link; ComponentLink2URL: https://www.we-online.com/redexpert/spec/691317410004?ad; Manufacturer Part Number: 691317410004; Category: Terminal Blocks; Match Code: WR-TBL; Mount: Through Hole; Operating Temperature Max: 105°C; Operating Temperature Min: -40°C; Packaging: Box; Application: Pluggable; Number of Pins: 4; Number of Rows: 1; Orientation: Horizontal; Pitch: 7.62mm
footprint 691317410004
pins: 1, 2, 3, 4

## 691317410005
designator P?  (value not drawn)
WR-TBL Series 3174 Close Horizontal PCB Header, THT, pitch 7.62mm, 5p; Manufacturer: Wurth Elektronik; Modularity: No; Rated Current: 20A; Working Voltage: 300V; ComponentLink1Description: Website Link; ComponentLink1URL: https://www.we-online.com/redexpert/article/691317410005?ad; ComponentLink2Description: Datasheet Link; ComponentLink2URL: https://www.we-online.com/redexpert/spec/691317410005?ad; Manufacturer Part Number: 691317410005; Category: Terminal Blocks; Match Code: WR-TBL; Mount: Through Hole; Operating Temperature Max: 105°C; Operating Temperature Min: -40°C; Packaging: Box; Application: Pluggable; Number of Pins: 5; Number of Rows: 1; Orientation: Horizontal; Pitch: 7.62mm
footprint 691317410005
pins: 1, 2, 3, 4, 5

## 691317410006
designator P?  (value not drawn)
WR-TBL Series 3174 Close Horizontal PCB Header, THT, pitch 7.62mm, 6p; Manufacturer: Wurth Elektronik; Modularity: No; Rated Current: 20A; Working Voltage: 300V; ComponentLink1Description: Website Link; ComponentLink1URL: https://www.we-online.com/redexpert/article/691317410006?ad; ComponentLink2Description: Datasheet Link; ComponentLink2URL: https://www.we-online.com/redexpert/spec/691317410006?ad; Manufacturer Part Number: 691317410006; Category: Terminal Blocks; Match Code: WR-TBL; Mount: Through Hole; Operating Temperature Max: 105°C; Operating Temperature Min: -40°C; Packaging: Box; Application: Pluggable; Number of Pins: 6; Number of Rows: 1; Orientation: Horizontal; Pitch: 7.62mm
footprint 691317410006
pins: 1, 2, 3, 4, 5, 6

## 691317410007
designator P?  (value not drawn)
WR-TBL Series 3174 Close Horizontal PCB Header, THT, pitch 7.62mm, 7p; Manufacturer: Wurth Elektronik; Modularity: No; Rated Current: 20A; Working Voltage: 300V; ComponentLink1Description: Website Link; ComponentLink1URL: https://www.we-online.com/redexpert/article/691317410007?ad; ComponentLink2Description: Datasheet Link; ComponentLink2URL: https://www.we-online.com/redexpert/spec/691317410007?ad; Manufacturer Part Number: 691317410007; Category: Terminal Blocks; Match Code: WR-TBL; Mount: Through Hole; Operating Temperature Max: 105°C; Operating Temperature Min: -40°C; Packaging: Box; Application: Pluggable; Number of Pins: 7; Number of Rows: 1; Orientation: Horizontal; Pitch: 7.62mm
footprint 691317410007
pins: 1, 2, 3, 4, 5, 6, 7

## 691317410008
designator P?  (value not drawn)
WR-TBL Series 3174 Close Horizontal PCB Header, THT, pitch 7.62mm, 8p; Manufacturer: Wurth Elektronik; Modularity: No; Rated Current: 20A; Working Voltage: 300V; ComponentLink1Description: Website Link; ComponentLink1URL: https://www.we-online.com/redexpert/article/691317410008?ad; ComponentLink2Description: Datasheet Link; ComponentLink2URL: https://www.we-online.com/redexpert/spec/691317410008?ad; Manufacturer Part Number: 691317410008; Category: Terminal Blocks; Match Code: WR-TBL; Mount: Through Hole; Operating Temperature Max: 105°C; Operating Temperature Min: -40°C; Packaging: Box; Application: Pluggable; Number of Pins: 8; Number of Rows: 1; Orientation: Horizontal; Pitch: 7.62mm
footprint 691317410008
pins: 1, 2, 3, 4, 5, 6, 7, 8

## 691317410012
designator P?  (value not drawn)
WR-TBL Series 3174 Close Horizontal PCB Header, THT, pitch 7.62mm, 12p; Manufacturer: Wurth Elektronik; Modularity: No; Rated Current: 20A; Working Voltage: 300V; ComponentLink1Description: Website Link; ComponentLink1URL: https://www.we-online.com/redexpert/article/691317410012?ad; ComponentLink2Description: Datasheet Link; ComponentLink2URL: https://www.we-online.com/redexpert/spec/691317410012?ad; Manufacturer Part Number: 691317410012; Category: Terminal Blocks; Match Code: WR-TBL; Mount: Through Hole; Operating Temperature Max: 105°C; Operating Temperature Min: -40°C; Packaging: Box; Application: Pluggable; Number of Pins: 12; Number of Rows: 1; Orientation: Horizontal; Pitch: 7.62mm
footprint 691317410012
pins: 1, 2, 3, 4, 5, 6, 7, 8, 9, 10, 11, 12

## 691317510002
designator P?  (value not drawn)
WR-TBL Series 3175 Close Horizontal PCB Header with Flanges, THT, pitch 5.08mm, 2p; Manufacturer: Wurth Elektronik; Modularity: No; Rated Current: 20A; Working Voltage: 300V; ComponentLink1Description: Website Link; ComponentLink1URL: https://www.we-online.com/redexpert/article/691317510002?ad; ComponentLink2Description: Datasheet Link; ComponentLink2URL: https://www.we-online.com/redexpert/spec/691317510002?ad; Manufacturer Part Number: 691317510002; Category: Terminal Blocks; Match Code: WR-TBL; Mount: Through Hole; Operating Temperature Max: 105°C; Operating Temperature Min: -40°C; Packaging: Box; Application: Pluggable; Number of Pins: 2; Number of Rows: 1; Orientation: Horizontal; Pitch: 5.08mm
footprint 691317510002
pins: 1, 2

## 691317510003
designator P?  (value not drawn)
WR-TBL Series 3175 Close Horizontal PCB Header with Flanges, THT, pitch 5.08mm, 3p; Manufacturer: Wurth Elektronik; Modularity: No; Rated Current: 20A; Working Voltage: 300V; ComponentLink1Description: Website Link; ComponentLink1URL: https://www.we-online.com/redexpert/article/691317510003?ad; ComponentLink2Description: Datasheet Link; ComponentLink2URL: https://www.we-online.com/redexpert/spec/691317510003?ad; Manufacturer Part Number: 691317510003; Category: Terminal Blocks; Match Code: WR-TBL; Mount: Through Hole; Operating Temperature Max: 105°C; Operating Temperature Min: -40°C; Packaging: Box; Application: Pluggable; Number of Pins: 3; Number of Rows: 1; Orientation: Horizontal; Pitch: 5.08mm
footprint 691317510003
pins: 1, 2, 3

## 691317510004
designator P?  (value not drawn)
WR-TBL Series 3175 Close Horizontal PCB Header with Flanges, THT, pitch 5.08mm, 4p; Manufacturer: Wurth Elektronik; Modularity: No; Rated Current: 20A; Working Voltage: 300V; ComponentLink1Description: Website Link; ComponentLink1URL: https://www.we-online.com/redexpert/article/691317510004?ad; ComponentLink2Description: Datasheet Link; ComponentLink2URL: https://www.we-online.com/redexpert/spec/691317510004?ad; Manufacturer Part Number: 691317510004; Category: Terminal Blocks; Match Code: WR-TBL; Mount: Through Hole; Operating Temperature Max: 105°C; Operating Temperature Min: -40°C; Packaging: Box; Application: Pluggable; Number of Pins: 4; Number of Rows: 1; Orientation: Horizontal; Pitch: 5.08mm
footprint 691317510004
pins: 1, 2, 3, 4

## 691317510005
designator P?  (value not drawn)
WR-TBL Series 3175 Close Horizontal PCB Header with Flanges, THT, pitch 5.08mm, 5p; Manufacturer: Wurth Elektronik; Modularity: No; Rated Current: 20A; Working Voltage: 300V; ComponentLink1Description: Website Link; ComponentLink1URL: https://www.we-online.com/redexpert/article/691317510005?ad; ComponentLink2Description: Datasheet Link; ComponentLink2URL: https://www.we-online.com/redexpert/spec/691317510005?ad; Manufacturer Part Number: 691317510005; Category: Terminal Blocks; Match Code: WR-TBL; Mount: Through Hole; Operating Temperature Max: 105°C; Operating Temperature Min: -40°C; Packaging: Box; Application: Pluggable; Number of Pins: 5; Number of Rows: 1; Orientation: Horizontal; Pitch: 5.08mm
footprint 691317510005
pins: 1, 2, 3, 4, 5

## 691317510006
designator P?  (value not drawn)
WR-TBL Series 3175 Close Horizontal PCB Header with Flanges, THT, pitch 5.08mm, 6p; Manufacturer: Wurth Elektronik; Modularity: No; Rated Current: 20A; Working Voltage: 300V; ComponentLink1Description: Website Link; ComponentLink1URL: https://www.we-online.com/redexpert/article/691317510006?ad; ComponentLink2Description: Datasheet Link; ComponentLink2URL: https://www.we-online.com/redexpert/spec/691317510006?ad; Manufacturer Part Number: 691317510006; Category: Terminal Blocks; Match Code: WR-TBL; Mount: Through Hole; Operating Temperature Max: 105°C; Operating Temperature Min: -40°C; Packaging: Box; Application: Pluggable; Number of Pins: 6; Number of Rows: 1; Orientation: Horizontal; Pitch: 5.08mm
footprint 691317510006
pins: 1, 2, 3, 4, 5, 6